# Altium schematic symbol library PCA6416AHF.SchLib: 1 symbol
Pins are listed as number, name and electrical type; pins without a type are passive.

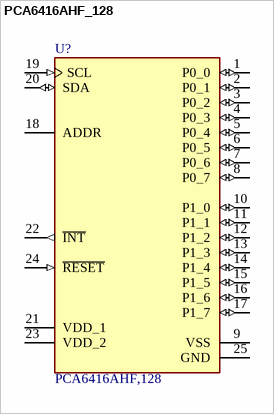
[diagram p0: symbol PCA6416AHF_128]

## PCA6416AHF_128
designator U?, comment PCA6416AHF,128
Parallel I/O Port, 16-Bit, 16 I/O, CMOS, PQCC24; Manufacturer_Name: NXP; Manufacturer: NXP Semiconductors; Geometry.Height: 0.8mm; Package Body Material: Plastic; Number of I/O Lines: 16; Number of Ports: 2; Max Supply Voltage: 5.5V; Min Supply Voltage: 1.65V; Supply Voltage-Nom: 1.8V; Package Equivalence Code: LCC24,.16SQ,20; Power Supplies: 1.8/5V; Qualification Status: Not Qualified; Mouser Part Number: 771-PCA6416AHF,128; Mouser Price/Stock: https://www.mouser.co.uk/ProductDetail/NXP-Semiconductors/PCA6416AHF128?qs=O0BhuZj9WkwU5QGYRyX1YQ%3D%3D; Manufacturer_Part_Number: PCA6416AHF,128; Datasheet Link: http://www.nxp.com/docs/en/data-sheet/PCA6416A.pdf; Supplier 1: Farnell; Manufacturer Part Number: PCA6416AHF,128; RoHS: Yes; Category: Interface ICs; Stock 1: 2757; Pricing 1: 1=1.64, 10=1.34, 50=1.19, 100=1.04, 250=0.978, 500=0.857, 1000=0.711, 2500=0.662 (CHF); Package Code: HVQCCN; Number of Pins: 24; Package Shape: Square; Min Operating Temperature: -40°C; Max Operating Temperature: 85°C; Package Style: CHIP CARRIER, HEAT SINK/SLUG, VERY THIN PROFILEMeter; Surface Mount: Yes; Technology: CMOS; Terminal Form: No Lead; Terminal Position: QUAD; Moisture Sensitivity Level: 1; Number of Bits: 16; Length: 4mm; Width: 4mm; Height - Seated (Max): 0.8mm; Terminal Pitch: 0.5mm; Temperature Grade: INDUSTRIAL; Reach SVHC Compliant: Yes; RoHS Compliant: Yes; ComponentLink1URL: https://datasheet.ciiva.com:443/pdfs/VipMasterIC/IC/PHGL/PHGLS25934/PHGLS25934-1.pdf?src-supplier=IHS+Markit; ComponentLink1Description: https://datasheet.ciiva.com:443/pdfs/VipMasterIC/IC/PHGL/PHGLS25934/PHGLS25934-1.pdf?src-supplier=IHS+Markit; ComponentLink2URL: https://datasheet.ciiva.com/12072/pca6416a-12072630.pdf?src-supplier=Mouser; ComponentLink2Description: https://datasheet.ciiva.com/12072/pca6416a-12072630.pdf?src-supplier=Mouser; ComponentLink3URL: https://datasheet.ciiva.com/6633/pca6416a-6633097.pdf?src-supplier=Digikey; ComponentLink3Description: https://datasheet.ciiva.com/6633/pca6416a-6633097.pdf?src-supplier=Digikey; ComponentLink4URL: https://datasheet.ciiva.com/6633/pca6416a-6633101.pdf?src-supplier=Digikey; ComponentLink4Description: https://datasheet.ciiva.com/6633/pca6416a-6633101.pdf?src-supplier=Digikey; ComponentLink5URL: https://datasheet.ciiva.com/6633/pca6416a-6633099.pdf?src-supplier=Digikey; ComponentLink5Description: https://datasheet.ciiva.com/6633/pca6416a-6633099.pdf?src-supplier=Digikey; Supplier Part Number 1: 2776177
footprint QFN50P400X400X80-25N-D
pins: 1 P0_0 (io), 2 P0_1 (io), 3 P0_2 (io), 4 P0_3 (io), 5 P0_4 (io), 6 P0_5 (io), 7 P0_6 (io), 8 P0_7 (io), 9 VSS (power), 10 P1_0 (io), 11 P1_1 (io), 12 P1_2 (io), 13 P1_3 (io), 14 P1_4 (io), 15 P1_5 (io), 16 P1_6 (io), 17 P1_7 (io), 18 ADDR, 19 SCL (in), 20 SDA (io), 21 VDD_1 (power), 22 ~{INT} (out), 23 VDD_2 (power), 24 ~{RESET} (in), 25 GND (power)